# EAGLE library part AS5306 (library reprap)
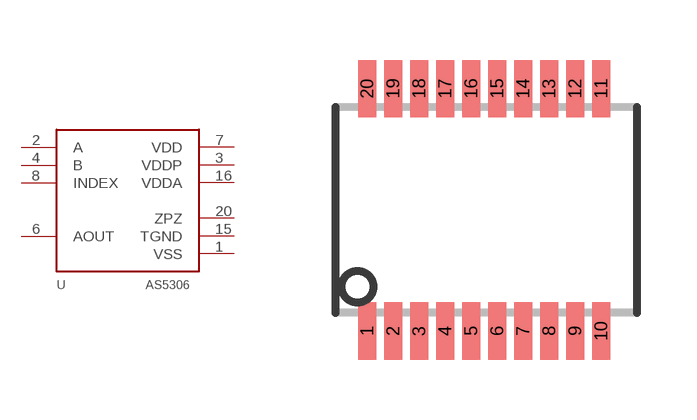
[diagram p15: symbol with the pads of SSOP20; footprint SSOP20]

Designator prefix -

## AS5306  [SSOP20]
1  VSS
2  A
3  VDDP
4  B
6  AOUT
7  VDD
8  INDEX
15  TGND
16  VDDA
20  ZPZ

## Footprint SSOP20 (pad centres in mm)
Small Shrink Outline Package SSOP 16 (5.3mm x 6.2mm) Source: www.austriamicrosystems.com .. AS5040DataSheetRev12.pdf
smd 0.46 x 1.43: 1 -2.925,-2.59; 2 -2.275,-2.59; 3 -1.625,-2.59; 4 -0.975,-2.59; 5 -0.325,-2.59; 6 0.325,-2.59; 7 0.975,-2.59; 8 1.625,-2.59; 9 2.275,-2.59; 10 2.925,-2.59; 11 2.925,3.47; 12 2.275,3.47; 13 1.625,3.47; 14 0.975,3.47; 15 0.325,3.47; 16 -0.325,3.47; 17 -0.975,3.47; 18 -1.625,3.47; 19 -2.275,3.47; 20 -2.925,3.47